# Altium schematic symbol library Robot.SCHLIB: 28 symbols
Pins are listed as number, name and electrical type; pins without a type are passive.

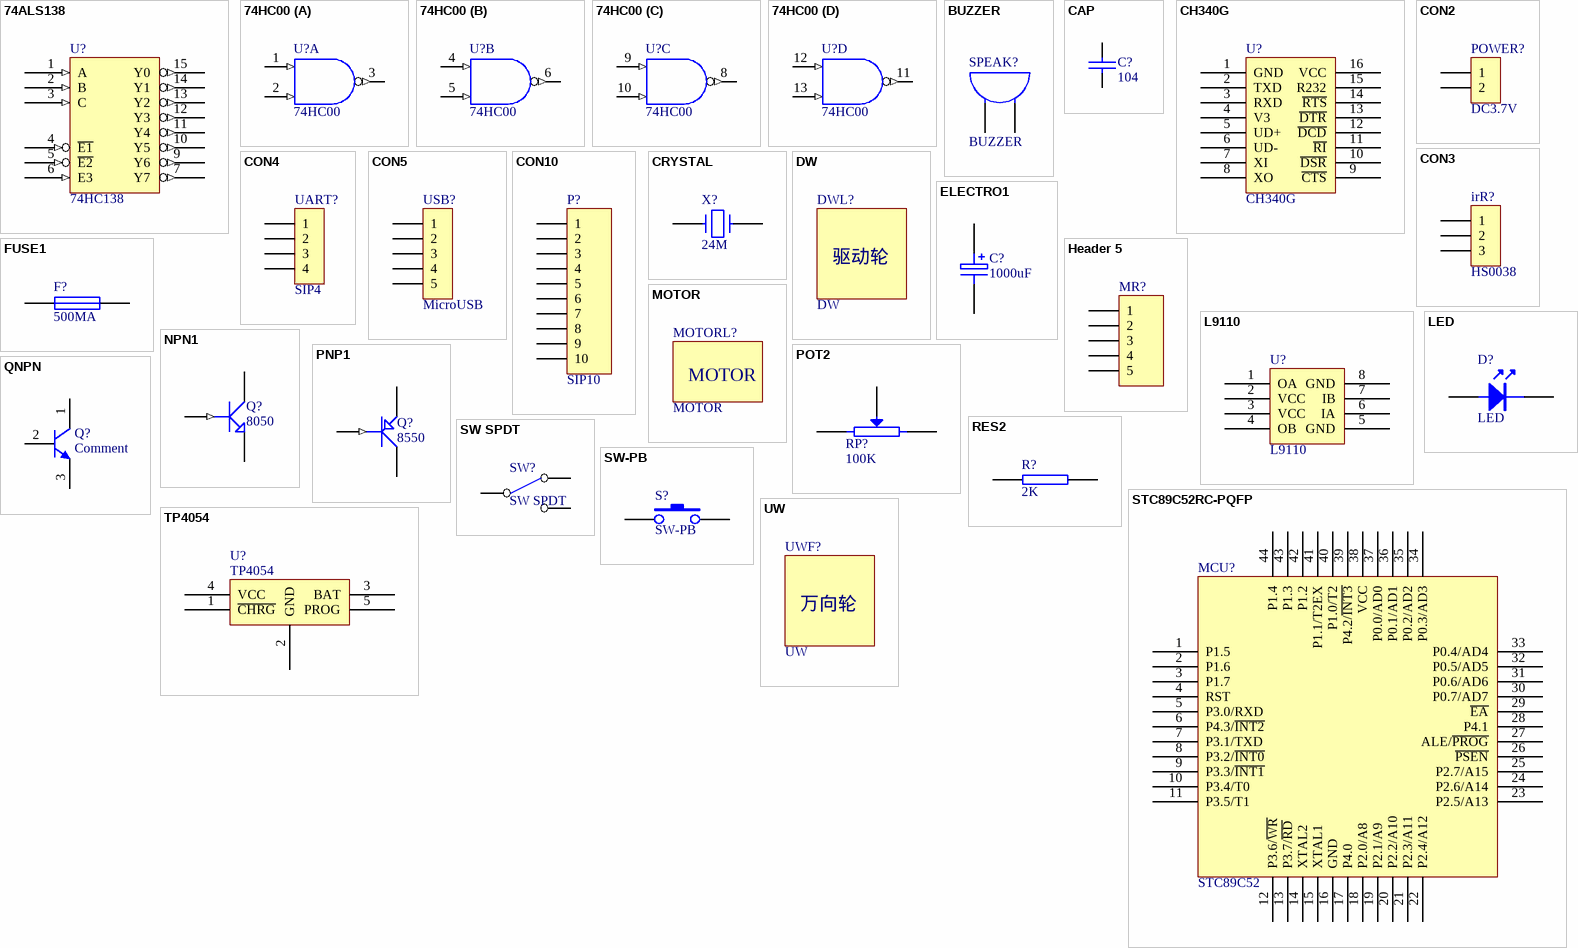
[diagram p0: symbols 74ALS138 to UW]

## 74ALS138
designator U?, comment 74HC138
footprint DIP-16
footprint SOP-16
pins: 1 A (in), 2 B (in), 3 C (in), 4 ~{E1} (in), 5 ~{E2} (in), 6 E3 (in), 7 Y7 (out), 8 GND (power) hidden to GND, 9 Y6 (out), 10 Y5 (out), 11 Y4 (out), 12 Y3 (out), 13 Y2 (out), 14 Y1 (out), 15 Y0 (out), 16 VCC (power) hidden to VCC

## 74HC00
designator U?
Quad 2-Input Positive-NAND Gate
footprint DIP-14
simulation model 74HC00 (SIMCODE)
footprint SO-14
part A pins: 1 A (in), 2 B (in), 3 Y (out), 7 GND (power) hidden to GND, 14 VCC (power) hidden to VCC
part B pins: 4 A (in), 5 B (in), 6 Y (out), 7 GND (power) hidden to GND, 14 VCC (power) hidden to VCC
part C pins: 7 GND (power) hidden to GND, 8 Y (out), 9 A (in), 10 B (in), 14 VCC (power) hidden to VCC
part D pins: 7 GND (power) hidden to GND, 11 Y (out), 12 A (in), 13 B (in), 14 VCC (power) hidden to VCC
1 alternate drawing of the same symbol

## BUZZER
designator SPEAK?
footprint BUZZ
pins: 1 A, 2 B

## CAP
designator C?, comment 104
Capacitor
footprint 0805C
pins: 1, 2

## CH340G
designator U?
USB-SERIAL
footprint SOP-16
pins: 1 GND, 2 TXD, 3 RXD, 4 V3, 5 UD+, 6 UD-, 7 XI, 8 XO, 9 ~{CTS}, 10 ~{DSR}, 11 ~{RI}, 12 ~{DCD}, 13 ~{DTR}, 14 ~{RTS}, 15 R232, 16 VCC

## CON2
designator POWER?, comment DC3.7V
Connector
footprint XH2.54-2P
pins: 1, 2

## CON3
designator irR?, comment HS0038
Connector
footprint SIP3
pins: 1, 2, 3

## CON4
designator UART?, comment SIP4
Connector
footprint SIP4
pins: 1, 2, 3, 4

## CON5
designator USB?, comment MicroUSB
Connector
footprint MircoUSB
footprint MircoUSB
pins: 1, 2, 3, 4, 5

## CON10
designator P?, comment SIP10
Connector
footprint SIP10
pins: 1, 2, 3, 4, 5, 6, 7, 8, 9, 10

## CRYSTAL
designator X?, comment 24M
Crystal
footprint XTAL2
pins: 1, 2

## DW
designator DWL?
driving wheel
footprint DW
text: 驱动轮

## ELECTRO1
designator C?, comment 1000uF
Electrolytic Capacitor
footprint RB.1/.3
pins: 1, 2

## FUSE1
designator F?, comment 500MA
Fuse
footprint 0805R
pins: 1, 2

## Header 5
designator MR?, comment Comment  (value not drawn)
5PIN
pins: 1, 2, 3, 4, 5

## L9110
designator U?
footprint SO-8
pins: 1 OA, 2 VCC, 3 VCC, 4 OB, 5 GND, 6 IA, 7 IB, 8 GND

## LED
designator D?
footprint 0805D
pins: 1, 2

## MOTOR
designator MOTORL?
footprint MOTOR

## NPN1
designator Q?, comment 8050
NPN Transistor
footprint SOT-23-N
pins: 1 B (in), 2 C, 3 E

## PNP1
designator Q?, comment 8550
PNP Transistor
footprint SOT-23-P
pins: 1 B (in), 2 E, 3 C

## POT2
designator RP?, comment 100K
Potentiometer
footprint VR-5
pins: 1, 2 W, 3

## QNPN
designator Q?, comment Comment
NPN三极管; Name: *
pins: 1 C, 2 B, 3 E

## RES2
designator R?, comment 2K
footprint 0805R
pins: 1, 2

## STC89C52RC-PQFP
designator MCU?, comment STC89C52
MCU
footprint TQFP-44
pins: 1 P1.5, 2 P1.6, 3 P1.7, 4 RST, 5 P3.0/RXD, 6 P4.3/~{INT2}, 7 P3.1/TXD, 8 P3.2/~{INT0}, 9 P3.3/~{INT1}, 10 P3.4/T0, 11 P3.5/T1, 12 P3.6/~{WR}, 13 P3.7/~{RD}, 14 XTAL2, 15 XTAL1, 16 GND, 17 P4.0, 18 P2.0/A8, 19 P2.1/A9, 20 P2.2/A10, 21 P2.3/A11, 22 P2.4/A12, 23 P2.5/A13, 24 P2.6/A14, 25 P2.7/A15, 26 ~{PSEN}, 27 ALE/~{PROG}, 28 P4.1, 29 ~{EA}, 30 P0.7/AD7, 31 P0.6/AD6, 32 P0.5/AD5, 33 P0.4/AD4, 34 P0.3/AD3, 35 P0.2/AD2, 36 P0.1/AD1, 37 P0.0/AD0, 38 VCC, 39 P4.2/~{INT3}, 40 P1.0/T2, 41 P1.1/T2EX, 42 P1.2, 43 P1.3, 44 P1.4

## SW SPDT
designator SW?
footprint SW-1-2
pins: 1 COMMON, 2 NC, 3 NO

## SW-PB
designator S?
footprint SWITCH
pins: 1, 2

## TP4054
designator U?
footprint SOT-23-5
pins: 1 ~{CHRG}, 2 GND, 3 BAT, 4 VCC, 5 PROG

## UW
designator UWF?
universal wheel
footprint UW
text: 万向轮